# Altium schematic symbol library OPA320AIDBVR.Schlib: 1 symbol
Pins are listed as number, name and electrical type; pins without a type are passive.

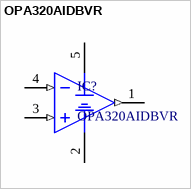
[diagram p0: symbol OPA320AIDBVR]

## OPA320AIDBVR
designator IC?
Precision Amplifiers PRECISION,20MHZ,RRIO CMOS OP AMP
pins: 1 OUT (out), 2 V- (power), 3 IN+ (in), 4 IN- (in), 5 V+ (power)